# EAGLE library part LD_SENSE (library Doc-Test_Interface)
Differential sense typically used for load remote sense.
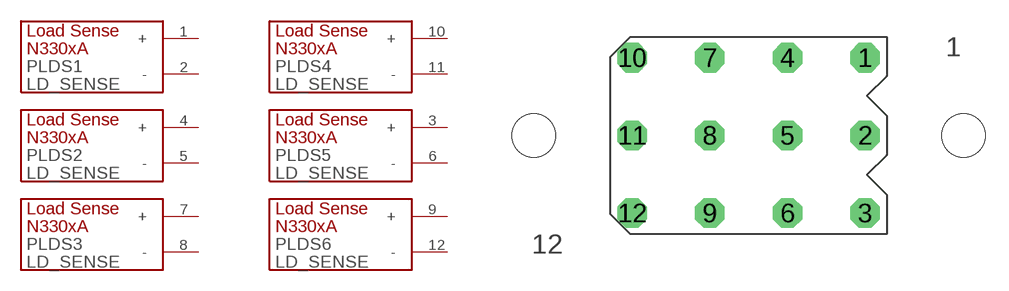
[diagram p4: symbol with the pads of 207528; footprint 207528]

Designator prefix P; gates LDS1=SENSE LDS2=SENSE LDS3=SENSE LDS4=SENSE LDS5=SENSE LDS6=SENSE

## LD_SENSE  [207528]
1  LDS1:+  in
2  LDS1:-  in
3  LDS5:+  in
4  LDS2:+  in
5  LDS2:-  in
6  LDS5:-  in
7  LDS3:+  in
8  LDS3:-  in
9  LDS6:+  in
10  LDS4:+  in
11  LDS4:-  in
12  LDS6:-  in

## Footprint 207528 (pad centres in mm)
207528 Metrimate 12 Socket Header 207017 Metrimate 12 Socket Plug Housing, which is not board mounted
drill 1.27 octagon: 1 7.5,5; 2 7.5,0; 3 7.5,-5; 4 2.5,5; 5 2.5,0; 6 2.5,-5; 7 -2.5,5; 8 -2.5,0; 9 -2.5,-5; 10 -7.5,5; 11 -7.5,0; 12 -7.5,-5
hole 2.794 at -13.843,0
hole 2.794 at 13.843,0